# Altium footprint library TUNA_TAN-CAP_Lib.PcbLib: 4 footprints
Each footprint in its own frame and in the unit in brackets; x right, y up, seen from the top. Pads: shape width x height; smd on the part's side, far side on the other; paste and mask are expansions set on the pad; w line width, h text height; cw(c..) or ccw(c..) is an arc to the next point about the centre after c.
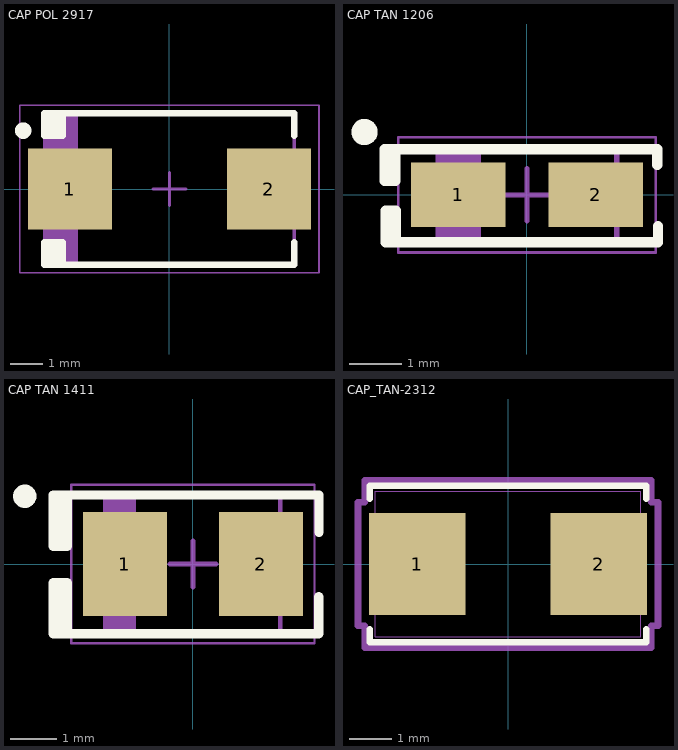
[diagram p0: the footprints below, top view; thin cyan lines are the x and y axes]

## CAP POL 2917 [mm] "Molded Capacitor, 2-Leads, Body 7.30x4.30mm, IPC Medium Density"
height 4.3
pads (2):
  rect 2.55x2.45 smd: 1(-3.025,0) 2(3.025,0)
Top Overlay:
  circle w0.25: c-4.45,1.775 r0.125
  rectangle: -3.8,1.625 -3.25,2.3
  rectangle: -3.8,-2.3 -3.25,-1.625
  lines w0.2: -3.25,-2.3 -3.25,-1.625 -3.8,-1.625 -3.8,-2.3 3.8,-2.3 3.8,-1.625 ; -3.25,2.3 -3.25,1.625 -3.8,1.625 -3.8,2.3 3.8,2.3 3.8,1.625
Mechanical 13:
  rectangle: -3.8,-2.3 -2.778,2.3
  lines w0.1: -3.8,-2.3 3.8,-2.3 3.8,2.3 -3.8,2.3 -3.8,-2.3
Mechanical 15:
  lines w0.05: -4.55,-2.55 4.55,-2.55 4.55,2.55 -4.55,2.55 -4.55,-2.55
  lines w0.1: -0.5,0 0.5,0 ; 0,-0.5 0,0.5
3D body "Tantalum Capacitor case E.STEP": height 4.1, standoff 0, extent -3.65,-2.15 3.65,2.15

## CAP TAN 1206 [mm] "Molded Capacitor, 2-Leads, Body 3.20x1.6mm, IPC Medium Density"
height 1.7
pads (2):
  rect 1.8x1.23 smd: 1(-1.31,0) 2(1.31,0)
Top Overlay:
  circle w0.25: c-3.1,1.2 r0.125
  rectangle: -2.7,-0.9 -2.55,-0.3
  rectangle: -2.717,0.273 -2.567,0.873
  lines w0.2: -2.517,0.873 -2.517,0.273 -2.717,0.273 -2.717,0.873 2.483,0.873 2.483,0.573 ; -2.5,-0.9 -2.5,-0.3 -2.7,-0.3 -2.7,-0.9 2.5,-0.9 2.5,-0.6
Mechanical 13:
  rectangle: -1.715,-0.85 -0.875,0.85
  lines w0.1: -1.7,-0.85 1.715,-0.85 1.715,0.85 -1.7,0.85 -1.7,-0.85
Mechanical 15:
  lines w0.05: -2.46,-1.1 -2.46,1.1 2.46,1.1 2.46,-1.1 -2.46,-1.1
  lines w0.1: -0.5,0 0.5,0 ; 0,-0.5 0,0.5
3D body "CAP TANT - 1206 - 1.7MM.step": height 1.7, standoff 0, extent -1.715,-0.85 1.715,0.85

## CAP TAN 1411 [mm] "Molded Capacitor, 2-Leads, Body 3.50x2.80mm, IPC Medium Density"
height 2
pads (2):
  rect 1.8x2.23 smd: 1(-1.46,0) 2(1.46,0)
Top Overlay:
  circle w0.25: c-3.608,1.454 r0.125
  region: -3,-0.4 -3,-1.5 -2.7,-1.5 -2.7,-0.4
  region: -2.995,0.38 -2.995,1.48 -2.695,1.48 -2.695,0.38
  lines w0.2: 2.7,-0.7 2.7,-1.5 -2.7,-1.5 ; 2.705,0.68 2.705,1.48 -2.695,1.48 ; -2.7,-1.5 -2.7,-0.4 -3,-0.4 -3,-1.5 -2.7,-1.5 ; -2.695,1.48 -2.695,0.38 -2.995,0.38 -2.995,1.48 -2.695,1.48
Mechanical 13:
  rectangle: -1.875,-1.45 -1.225,1.45
  lines w0.1: -1.875,-1.45 1.875,-1.45 1.875,1.45 -1.875,1.45 -1.875,-1.45
Mechanical 15:
  lines w0.05: -2.61,-1.7 2.61,-1.7 2.61,1.7 -2.61,1.7 -2.61,-1.7
  lines w0.1: -0.5,0 0.5,0 ; 0,-0.5 0,0.5
3D body "CAP TANT - 1411 - 2.0MM.step": height 2, standoff 0, extent -1.865,-1.45 1.865,1.45

## CAP_TAN-2312 [mil]
pads (2):
  rect 89x94 smd paste+0 mask+0: 1(-83.5,0) 2(83.5,0)
Top Overlay:
  lines w6: -127,-60.1 -127,-72 127,-72 127,-60.1 ; -127,60.1 -127,72 127,72 127,60.1
  text ".Designator" at -155,110 h50
Mechanical 13:
  lines w1: -122,-67 -122,67 122,67 122,-67 -122,-67
  text ".Designator" at -155,110 h50
Mechanical 15:
  lines w6: -138,-57 -138,57 -132,57 -132,77 132,77 132,57 138,57 138,-57 132,-57 132,-77 -132,-77 -132,-57 -138,-57
3D body "CAP_TAJ-W-2312-LP_AVX.step": height 60.98, standoff 0, extent -122.01,-67.01 122.01,67.01